# Altium footprint library 2019-05-14_07-55-18.PcbLib: 3 footprints
Each footprint in its own frame and in the unit in brackets; x right, y up, seen from the top. Pads: shape width x height; smd on the part's side, far side on the other; paste and mask are expansions set on the pad; w line width, h text height; cw(c..) or ccw(c..) is an arc to the next point about the centre after c.
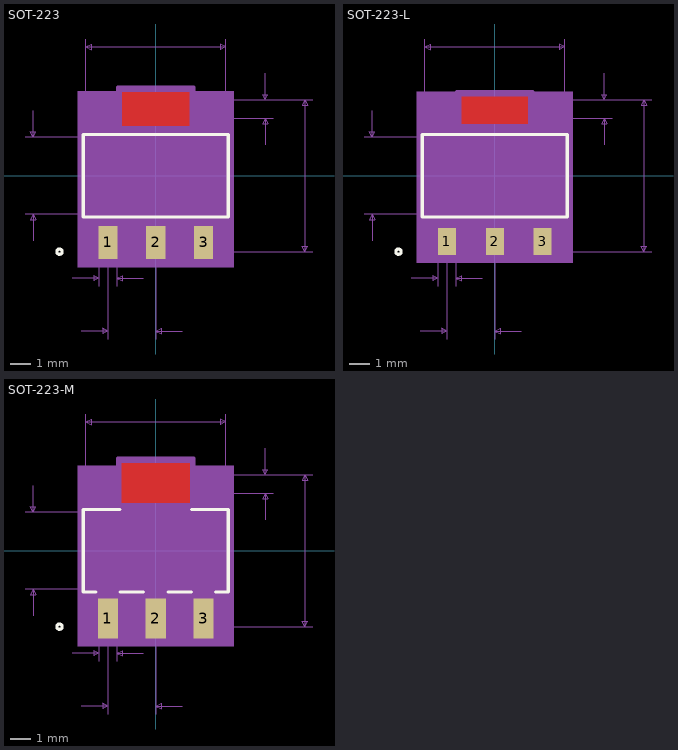
[diagram p0: the footprints below, top view; thin cyan lines are the x and y axes]

## SOT-223 [mil]
pads (3):
  rect 36x63 smd paste+0 mask+0: 1(-90.55,-126) 2(0,-126) 3(90.55,-126)
Top Layer:
  region: 63,94.5 63,157.5 -63,157.5 -63,94.5
Top Overlay:
  circle w6: c-182,-143.5 r5
  lines w6: -137,-78 137,-78 137,78 -137,78 -137,-78
Top Paste:
  region: 63,94.5 63,157.5 -63,157.5 -63,94.5
Top Solder:
  region: 64,80.5 64,171.5 -64,171.5 -64,80.5
Mechanical 5:
  region: -147,159.5 147,159.5 147,-172.5 -147,-172.5
Mechanical 7:
  lines w1: -247,-73 0,-73 ; -247,73 0,73 ; -232,-123 -232,-73 ; -232,123 -232,73 ; -157.55,-193.5 -107.55,-193.5 ; -140.55,-293.5 -90.55,-293.5 ; -132,73 -132,258.5 ; -107.55,-208.5 -107.55,-143.5 ; -90.55,-308.5 -90.55,-143.5 ; -73.55,-208.5 -73.55,-143.5 ; -23.55,-193.5 -73.55,-193.5 ; 0,-308.5 0,-143.5 297,-143.5 ; 0,108.5 222,108.5 ; 50,-293.5 0,-293.5 ; 132,73 132,258.5 ; 207,58.5 207,108.5 ; 207,193.5 207,143.5 ; 222,143.5 0,143.5 297,143.5 ; -232,-73 -237,-83 -227,-83 -232,-73 ; -232,73 -237,83 -227,83 -232,73 ; -132,243.5 132,243.5 ; -132,243.5 -122,248.5 -122,238.5 -132,243.5 ; -107.55,-193.5 -117.55,-188.5 -117.55,-198.5 -107.55,-193.5 ; -90.55,-293.5 -100.55,-288.5 -100.55,-298.5 -90.55,-293.5 ; -73.55,-193.5 -63.55,-188.5 -63.55,-198.5 -73.55,-193.5 ; 0,-293.5 10,-288.5 10,-298.5 0,-293.5 ; 132,243.5 122,248.5 122,238.5 132,243.5 ; 207,108.5 202,98.5 212,98.5 207,108.5 ; 207,143.5 202,153.5 212,153.5 207,143.5 ; 282,-143.5 282,143.5 ; 282,-143.5 277,-133.5 287,-133.5 282,-143.5 ; 282,143.5 277,133.5 287,133.5 282,143.5
  text "Default Pin Padstyle: RX36Y63D0T" at -400,-457.5 h50
  text "Alt 1 Padstyle: OX60Y90D30P" at -337.5,-507.5 h50
  text "Alt 2 Padstyle: OX90Y60D30P" at -337.5,-557.5 h50
  text "0.287in/7.29mm" at 302,-12.5 h25
  text "0.035in/0.889mm" at 227,113.5 h25
  text "0.091in/2.3mm" at -126.53,-338.5 h25
  text "0.034in/0.864mm" at -184.3,-238.5 h25
  text "0.264in/6.706mm" at -93.75,263.5 h25
  text "0.146in/3.708mm" at -439.5,-12.5 h25
Mechanical 13:
  circle w0: c-122,-63 r5
  lines w1: -132,-73 132,-73 132,73 -132,73 -132,-73 ; -107.55,-143.5 -107.55,-73 -73.55,-73 -73.55,-143.5 -107.55,-143.5 ; -62,73 62,73 62,143.5 -62,143.5 -62,73 ; -17,-143.5 -17,-73 17,-73 17,-143.5 -17,-143.5 ; 73.55,-143.5 73.55,-73 107.55,-73 107.55,-143.5 73.55,-143.5
Mechanical 15:
  region: -142,-83 -142,83 -72,83 -72,167.5 72,167.5 72,83 142,83 142,-83 117.55,-83 117.55,-167.5 -117.55,-167.5 -117.55,-83
  lines w6: -142,-83 -142,83 -72,83 -72,167.5 72,167.5 72,83 142,83 142,-83 117.55,-83 117.55,-167.5 -117.55,-167.5 -117.55,-83 -142,-83
3D body: height 10, standoff 0, extent 0,0 10,10

## SOT-223-L [mil]
pads (3):
  rect 34x51 smd paste+0 mask+0: 1(-90.55,-124) 2(0,-124) 3(90.55,-124)
Top Layer:
  region: 62,98.5 62,149.5 -62,149.5 -62,98.5
Top Overlay:
  circle w6: c-182,-143.5 r5
  lines w6: -137,-78 137,-78 137,78 -137,78 -137,-78
Top Paste:
  region: 62,98.5 62,149.5 -62,149.5 -62,98.5
Top Solder:
  region: 62,88.5 62,155.5 -62,155.5 -62,88.5
Mechanical 5:
  region: -147,158.5 147,158.5 147,-164.5 -147,-164.5
Mechanical 7:
  lines w1: -247,-73 0,-73 ; -247,73 0,73 ; -232,-123 -232,-73 ; -232,123 -232,73 ; -157.55,-193.5 -107.55,-193.5 ; -140.55,-293.5 -90.55,-293.5 ; -132,73 -132,258.5 ; -107.55,-208.5 -107.55,-143.5 ; -90.55,-308.5 -90.55,-143.5 ; -73.55,-208.5 -73.55,-143.5 ; -23.55,-193.5 -73.55,-193.5 ; 0,-308.5 0,-143.5 297,-143.5 ; 0,108.5 222,108.5 ; 50,-293.5 0,-293.5 ; 132,73 132,258.5 ; 207,58.5 207,108.5 ; 207,193.5 207,143.5 ; 222,143.5 0,143.5 297,143.5 ; -232,-73 -237,-83 -227,-83 -232,-73 ; -232,73 -237,83 -227,83 -232,73 ; -132,243.5 132,243.5 ; -132,243.5 -122,248.5 -122,238.5 -132,243.5 ; -107.55,-193.5 -117.55,-188.5 -117.55,-198.5 -107.55,-193.5 ; -90.55,-293.5 -100.55,-288.5 -100.55,-298.5 -90.55,-293.5 ; -73.55,-193.5 -63.55,-188.5 -63.55,-198.5 -73.55,-193.5 ; 0,-293.5 10,-288.5 10,-298.5 0,-293.5 ; 132,243.5 122,248.5 122,238.5 132,243.5 ; 207,108.5 202,98.5 212,98.5 207,108.5 ; 207,143.5 202,153.5 212,153.5 207,143.5 ; 282,-143.5 282,143.5 ; 282,-143.5 277,-133.5 287,-133.5 282,-143.5 ; 282,143.5 277,133.5 287,133.5 282,143.5
  text "Default Pin Padstyle: RX34Y51D0T" at -400,-449.5 h50
  text "Alt 1 Padstyle: OX60Y90D30P" at -337.5,-499.5 h50
  text "Alt 2 Padstyle: OX90Y60D30P" at -337.5,-549.5 h50
  text "0.287in/7.29mm" at 302,-12.5 h25
  text "0.035in/0.889mm" at 227,113.5 h25
  text "0.091in/2.3mm" at -126.53,-338.5 h25
  text "0.034in/0.864mm" at -184.3,-238.5 h25
  text "0.264in/6.706mm" at -93.75,263.5 h25
  text "0.146in/3.708mm" at -439.5,-12.5 h25
Mechanical 13:
  circle w0: c-122,-63 r5
  lines w1: -132,-73 132,-73 132,73 -132,73 -132,-73 ; -107.55,-143.5 -107.55,-73 -73.55,-73 -73.55,-143.5 -107.55,-143.5 ; -62,73 62,73 62,143.5 -62,143.5 -62,73 ; -17,-143.5 -17,-73 17,-73 17,-143.5 -17,-143.5 ; 73.55,-143.5 73.55,-73 107.55,-73 107.55,-143.5 73.55,-143.5
Mechanical 15:
  region: -142,-83 -142,83 -72,83 -72,159.5 72,159.5 72,83 142,83 142,-83 117.55,-83 117.55,-159.5 -117.55,-159.5 -117.55,-83
  lines w6: -142,-83 -142,83 -72,83 -72,159.5 72,159.5 72,83 142,83 142,-83 117.55,-83 117.55,-159.5 -117.55,-159.5 -117.55,-83 -142,-83
3D body: height 10, standoff 0, extent 0,0 10,10

## SOT-223-M [mil]
pads (3):
  rect 38x75 smd paste+0 mask+0: 1(-90.55,-128) 2(0,-128) 3(90.55,-128)
Top Layer:
  region: 64,90.5 64,165.5 -64,165.5 -64,90.5
Top Overlay:
  circle w6: c-182,-143.5 r5
  lines w6: -113.47,-78 -137,-78 -137,78 -67.92,78 ; -67.63,-78 -22.92,-78 ; 22.92,-78 67.63,-78 ; 67.92,78 137,78 137,-78 113.47,-78
Top Paste:
  region: 64,90.5 64,165.5 -64,165.5 -64,90.5
Top Solder:
  region: 66,72.5 66,187.5 -66,187.5 -66,72.5
Mechanical 5:
  region: -147,160.5 147,160.5 147,-180.5 -147,-180.5
Mechanical 7:
  lines w1: -247,-73 0,-73 ; -247,73 0,73 ; -232,-123 -232,-73 ; -232,123 -232,73 ; -157.55,-193.5 -107.55,-193.5 ; -140.55,-293.5 -90.55,-293.5 ; -132,73 -132,258.5 ; -107.55,-208.5 -107.55,-143.5 ; -90.55,-308.5 -90.55,-143.5 ; -73.55,-208.5 -73.55,-143.5 ; -23.55,-193.5 -73.55,-193.5 ; 0,-308.5 0,-143.5 297,-143.5 ; 0,108.5 222,108.5 ; 50,-293.5 0,-293.5 ; 132,73 132,258.5 ; 207,58.5 207,108.5 ; 207,193.5 207,143.5 ; 222,143.5 0,143.5 297,143.5 ; -232,-73 -237,-83 -227,-83 -232,-73 ; -232,73 -237,83 -227,83 -232,73 ; -132,243.5 132,243.5 ; -132,243.5 -122,248.5 -122,238.5 -132,243.5 ; -107.55,-193.5 -117.55,-188.5 -117.55,-198.5 -107.55,-193.5 ; -90.55,-293.5 -100.55,-288.5 -100.55,-298.5 -90.55,-293.5 ; -73.55,-193.5 -63.55,-188.5 -63.55,-198.5 -73.55,-193.5 ; 0,-293.5 10,-288.5 10,-298.5 0,-293.5 ; 132,243.5 122,248.5 122,238.5 132,243.5 ; 207,108.5 202,98.5 212,98.5 207,108.5 ; 207,143.5 202,153.5 212,153.5 207,143.5 ; 282,-143.5 282,143.5 ; 282,-143.5 277,-133.5 287,-133.5 282,-143.5 ; 282,143.5 277,133.5 287,133.5 282,143.5
  text "Default Pin Padstyle: RX38Y75D0T" at -400,-465.5 h50
  text "Alt 1 Padstyle: OX60Y90D30P" at -337.5,-515.5 h50
  text "Alt 2 Padstyle: OX90Y60D30P" at -337.5,-565.5 h50
  text "0.287in/7.29mm" at 302,-12.5 h25
  text "0.035in/0.889mm" at 227,113.5 h25
  text "0.091in/2.3mm" at -126.53,-338.5 h25
  text "0.034in/0.864mm" at -184.3,-238.5 h25
  text "0.264in/6.706mm" at -93.75,263.5 h25
  text "0.146in/3.708mm" at -439.5,-12.5 h25
Mechanical 13:
  circle w0: c-122,-63 r5
  lines w1: -132,-73 132,-73 132,73 -132,73 -132,-73 ; -107.55,-143.5 -107.55,-73 -73.55,-73 -73.55,-143.5 -107.55,-143.5 ; -62,73 62,73 62,143.5 -62,143.5 -62,73 ; -17,-143.5 -17,-73 17,-73 17,-143.5 -17,-143.5 ; 73.55,-143.5 73.55,-73 107.55,-73 107.55,-143.5 73.55,-143.5
Mechanical 15:
  region: -142,-83 -142,83 -72,83 -72,175.5 72,175.5 72,83 142,83 142,-83 117.55,-83 117.55,-175.5 -117.55,-175.5 -117.55,-83
  lines w6: -142,-83 -142,83 -72,83 -72,175.5 72,175.5 72,83 142,83 142,-83 117.55,-83 117.55,-175.5 -117.55,-175.5 -117.55,-83 -142,-83
3D body: height 10, standoff 0, extent 0,0 10,10